# Altium schematic symbol library Diode.SchLib: 43 symbols
Pins are listed as number, name and electrical type; pins without a type are passive.

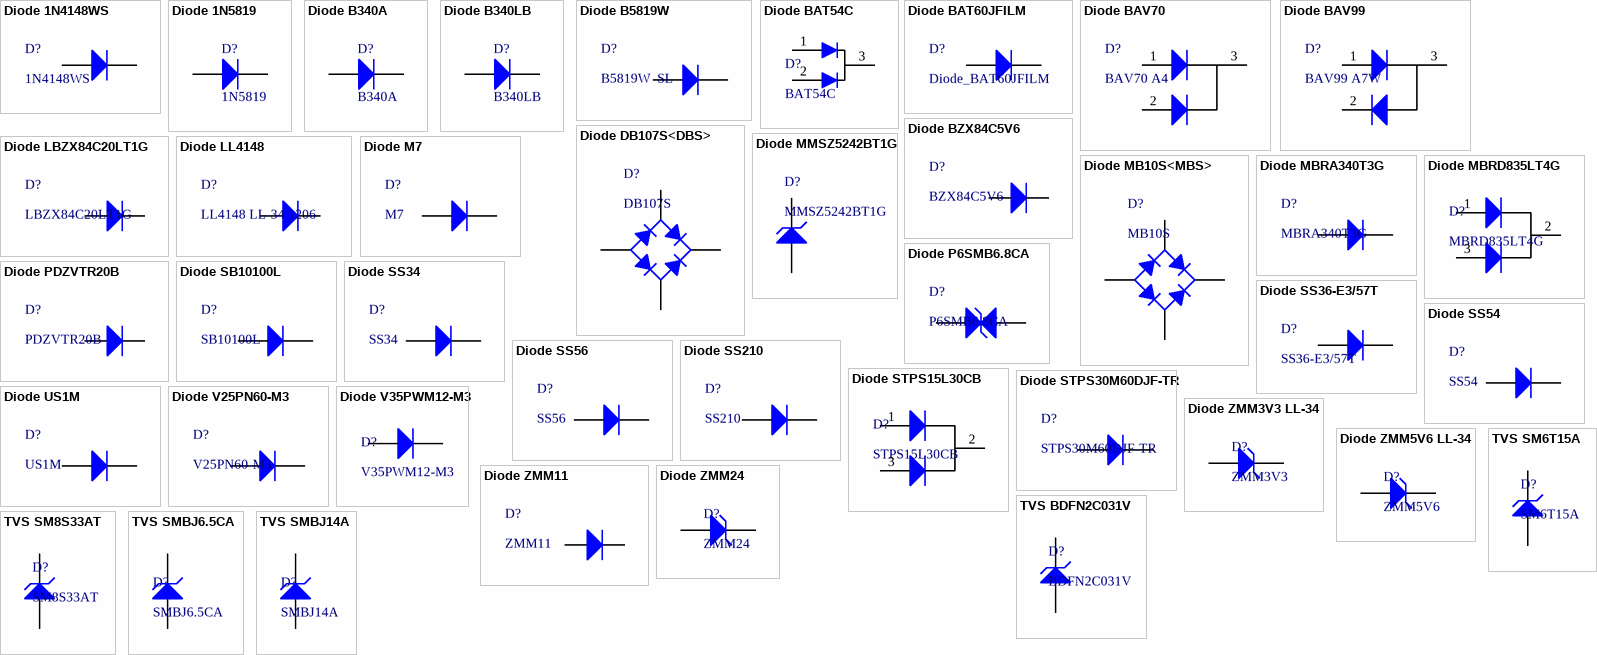
[diagram p0: symbols Diode 1N4148WS to TVS SMBJ14A]

## Diode 1N4148WS
designator D?, comment 1N4148WS
二极管; ComponentLink1Description: 供应商链接; ComponentLink1URL: http://www.szlcsc.com/product/details_2485.html; Package: SOD-323; Supplier: LC; SuppliersPartNumber: C2128
footprint SOD323
pins: 1 A, 2 K

## Diode 1N5819
designator D?, comment 1N5819
肖特基二极管; Published: 8-Jun-2000; LatestRevisionDate: 17-Jul-2002; LatestRevisionNote: Re-released for DXP Platform.; PackageVersion: Sep-1996; PackageReference: SMC; Publisher: Altium Limited; PackageDescription: DO-214-AB/SMC; 2 C-Bend Leads; Body 7.9 x 5.9 mm, inc. leads (LxW); Code_JEDEC: DO-214-AB
footprint SOD123F
pins: 1 A, 2 K

## Diode B340A
designator D?, comment B340A
肖特基二极管; Published: 8-Jun-2000; LatestRevisionDate: 17-Jul-2002; LatestRevisionNote: Re-released for DXP Platform.; PackageVersion: Sep-1996; PackageReference: SMC; Publisher: Altium Limited; PackageDescription: DO-214-AB/SMC; 2 C-Bend Leads; Body 7.9 x 5.9 mm, inc. leads (LxW); Code_JEDEC: DO-214-AB
footprint DO-214AC
pins: 1 A, 2 K

## Diode B340LB
designator D?, comment B340LB
肖特基二极管; Published: 8-Jun-2000; LatestRevisionDate: 17-Jul-2002; LatestRevisionNote: Re-released for DXP Platform.; PackageVersion: Sep-1996; PackageReference: SMC; Publisher: Altium Limited; PackageDescription: DO-214-AB/SMC; 2 C-Bend Leads; Body 7.9 x 5.9 mm, inc. leads (LxW); Code_JEDEC: DO-214-AB
footprint DO-214AA
pins: 1 A, 2 K

## Diode B5819W
designator D?, comment B5819W  SL
肖特基二极管; ComponentLink1Description: 供应商链接; ComponentLink1URL: http://www.szlcsc.com/product/details_9093.html; Package: SOD-123; Supplier: LC; SuppliersPartNumber: C8598
footprint SOD123
pins: 1 A, 2 K

## Diode BAT54C
designator D?, comment BAT54C
肖特基二极管
footprint SOT23-3
pins: 1 A, 2 A, 3 K

## Diode BAT60JFILM
designator D?, comment Diode_BAT60JFILM
二极管; ComponentLink1Description: 供应商链接; ComponentLink1URL: http://www.szlcsc.com/product/details_2485.html; Package: SOD-323; Supplier: LC; SuppliersPartNumber: C2128
footprint SOD323
pins: 1 A, 2 K

## Diode BAV70
designator D?, comment BAV70 A4
开关二极管; ComponentLink1Description: 供应商链接; ComponentLink1URL: http://www.szlcsc.com/product/details_70091.html; Package: SOT-23; Supplier: LC; SuppliersPartNumber: C68978
footprint SOT23-3
pins: 1 A, 2 A, 3 K

## Diode BAV99
designator D?, comment BAV99 A7W
开关二极管; ComponentLink1Description: 供应商链接; ComponentLink1URL: http://www.szlcsc.com/product/details_2877.html; Package: SOT-23; Supplier: LC; SuppliersPartNumber: C2500
footprint SOT23-3
pins: 1 A, 2 A, 3 K

## Diode BZX84C5V6
designator D?, comment BZX84C5V6
开关二极管; ComponentLink1Description: 供应商链接; ComponentLink1URL: http://www.szlcsc.com/product/details_10338.html; Package: LL-34; Supplier: LC; SuppliersPartNumber: C9808
footprint SOT23-3
pins: 1 A, 2 A, 3 K

## Diode DB107S<DBS>
designator D?, comment DB107S
整流桥; ComponentLink1Description: 供应商链接; ComponentLink1URL: http://www.szlcsc.com/product/details_5809.html; Package: DBS; Supplier: LC; SuppliersPartNumber: C5377
footprint DBS
pins: 1 C, 2 K, 3 C, 4 A

## Diode LBZX84C20LT1G
designator D?, comment LBZX84C20LT1G
开关二极管; ComponentLink1Description: 供应商链接; ComponentLink1URL: http://www.szlcsc.com/product/details_10338.html; Package: LL-34; Supplier: LC; SuppliersPartNumber: C9808
footprint SOT23-3
pins: 1 A, 2 A, 3 K

## Diode LL4148
designator D?, comment LL4148 LL-34 1206
开关二极管; ComponentLink1Description: 供应商链接; ComponentLink1URL: http://www.szlcsc.com/product/details_10338.html; Package: LL-34; Supplier: LC; SuppliersPartNumber: C9808
footprint LL-34
pins: 1 A, 2 K

## Diode M7
designator D?, comment M7
二极管; 备注: 1N4007 4007 编号C2464 已经停售, 使用新物料编号C95872; ComponentLink1Description: 供应商链接; ComponentLink1URL: http://www.szlcsc.com/product/details_2841.html; Package: SMA(DO-214AC); Supplier: LC; SuppliersPartNumber: C95872
footprint DO-214AC
pins: 1 A, 2 K

## Diode MB10S<MBS>
designator D?, comment MB10S
整流桥; ComponentLink1Description: 供应商链接; ComponentLink1URL: http://www.szlcsc.com/product/details_2865.html; Package: MBS; Supplier: LC; SuppliersPartNumber: C2488
footprint MBS
pins: 1 C, 2 K, 3 C, 4 A

## Diode MBRA340T3G
designator D?, comment MBRA340T3G
二极管; ComponentLink1Description: 供应商链接; ComponentLink1URL: http://www.szlcsc.com/product/details_23178.html; Package: SMA(DO-214AC); Supplier: LC; SuppliersPartNumber: C22452
footprint DO-214AC
pins: 1 A, 2 K

## Diode MBRD835LT4G
designator D?, comment MBRD835LT4G
肖特基二极管
footprint TO252 (252晶体管)
pins: 1, 2, 3

## Diode MMSZ5242BT1G
designator D?, comment MMSZ5242BT1G
稳压二极管; ComponentLink1Description: 供应商链接; ComponentLink1URL: http://www.szlcsc.com/product/details_10338.html; Package: LL-34; Supplier: LC; SuppliersPartNumber: C9808
footprint SOD123
pins: 1 A, 2 K

## Diode P6SMB6.8CA
designator D?, comment P6SMB6.8CA
TVS管; ComponentLink1Description: 供应商链接; ComponentLink1URL: http://www.szlcsc.com/product/details_79530.html; Package: SMB/DO-214AA; Supplier: LC; SuppliersPartNumber: C78395
footprint DO-214AA
pins: 1 A, 2 K

## Diode PDZVTR20B
designator D?, comment PDZVTR20B
稳压二极管; ComponentLink1Description: 供应商链接; ComponentLink1URL: http://www.szlcsc.com/product/details_10338.html; Package: LL-34; Supplier: LC; SuppliersPartNumber: C9808
footprint SOD128
pins: 1 A, 2 K

## Diode SB10100L
designator D?, comment SB10100L
二极管; ComponentLink1Description: 供应商链接; ComponentLink1URL: http://www.szlcsc.com/product/details_23178.html; Package: SMA(DO-214AC); Supplier: LC; SuppliersPartNumber: C22452
footprint TO277
pins: 1 A, 2 A, K

## Diode SS34
designator D?, comment SS34
二极管; ComponentLink1Description: 供应商链接; ComponentLink1URL: http://www.szlcsc.com/product/details_23178.html; Package: SMA(DO-214AC); Supplier: LC; SuppliersPartNumber: C22452
footprint DO-214AC
pins: 1 A, 2 K

## Diode SS36-E3/57T
designator D?, comment SS36-E3/57T
二极管; ComponentLink1Description: 供应商链接; ComponentLink1URL: http://www.szlcsc.com/product/details_36698.html; Package: SMC(DO-214AB); Supplier: LC; SuppliersPartNumber: C35722
footprint DO-214AB
pins: 1 A, 2 K

## Diode SS54
designator D?, comment SS54
二极管; ComponentLink1Description: 供应商链接; ComponentLink1URL: http://www.szlcsc.com/product/details_23178.html; Package: SMA(DO-214AC); Supplier: LC; SuppliersPartNumber: C22452
footprint DO-214AC
pins: 1 A, 2 K

## Diode SS56
designator D?, comment SS56
二极管; ComponentLink1Description: 供应商链接; ComponentLink1URL: http://www.szlcsc.com/product/details_23178.html; Package: SMA(DO-214AC); Supplier: LC; SuppliersPartNumber: C22452
footprint DO-214AC
pins: 1 A, 2 K

## Diode SS210
designator D?, comment SS210
二极管; ComponentLink1Description: 供应商链接; ComponentLink1URL: http://www.szlcsc.com/product/details_15669.html; Package: SMA(DO-214AC); Supplier: LC; SuppliersPartNumber: C14996
footprint DO-214AC
pins: 1 A, 2 K

## Diode STPS15L30CB
designator D?, comment STPS15L30CB
肖特基二极管
footprint TO252 (252晶体管)
pins: 1, 2, 3

## Diode STPS30M60DJF-TR
designator D?, comment STPS30M60DJF-TR
二极管; ComponentLink1Description: 供应商链接; ComponentLink1URL: http://www.szlcsc.com/product/details_23178.html; Package: SMA(DO-214AC); Supplier: LC; SuppliersPartNumber: C22452
footprint POWERFLAT 5X6
pins: 1 A, 2 A, 3 A, 4 A, 5 K, 6 K, 7 K, 8 K

## Diode US1M
designator D?, comment US1M
二极管; ComponentLink1Description: 供应商链接; ComponentLink1URL: http://www.szlcsc.com/product/details_5885.html; Package: SMA(DO-214AC); Supplier: LC; SuppliersPartNumber: C5441
footprint DO-214AC
pins: 1 A, 2 K

## Diode V25PN60-M3
designator D?, comment V25PN60-M3
肖特基二极管; Package: SMA(DO-214AC); Supplier: LC; SuppliersPartNumber: C22452; ComponentLink1Description: 立创商城链接; ComponentLink1URL: https://item.szlcsc.com/240762.html
footprint TO277
pins: 1 A, 2 A, K

## Diode V35PWM12-M3
designator D?, comment V35PWM12-M3
肖特基二极管; ComponentLink1Description: 立创商城链接; ComponentLink1URL: https://item.szlcsc.com/156647.html
footprint TO252 (252晶体管)
pins: 1, 2, 3

## Diode ZMM3V3 LL-34
designator D?, comment ZMM3V3
稳压二极管; ComponentLink1Description: 供应商链接; ComponentLink1URL: http://www.szlcsc.com/product/details_8535.html; Package: LL-34; Supplier: LC; SuppliersPartNumber: C8056
footprint LL-34
pins: 1 A, 2 K

## Diode ZMM5V6 LL-34
designator D?, comment ZMM5V6
稳压二极管; ComponentLink1Description: 供应商链接; ComponentLink1URL: http://www.szlcsc.com/product/details_8541.html; Package: LL-34; Supplier: LC; SuppliersPartNumber: C8062
footprint LL-34
pins: 1 A, 2 K

## Diode ZMM11
designator D?, comment ZMM11
稳压二极管; ComponentLink1Description: 供应商链接; ComponentLink1URL: http://www.szlcsc.com/product/details_10338.html; Package: LL-34; Supplier: LC; SuppliersPartNumber: C9808
footprint LL-34
pins: 1 A, 2 K

## Diode ZMM24
designator D?, comment ZMM24
稳压二极管; Package: LL-34; Supplier: LC; SuppliersPartNumber: C8062; ComponentLink1Description: 立创商城链接; ComponentLink1URL: https://item.szlcsc.com/8553.html
footprint LL-34
pins: 1 A, 2 K

## TVS BDFN2C031V
designator D?, comment BDFN2C031V
TVS管
footprint DFN2
pins: 1 A, 2 K

## TVS SM6T15A
designator D?, comment SM6T15A
TVS管
footprint DO-214
pins: 1 A, 2 K

## TVS SM8S33AT
designator D?, comment SM8S33AT
TVS管
footprint DO-218 (=DO-218AB)
pins: 1 A, 2 K

## TVS SMBJ6.5CA
designator D?, comment SMBJ6.5CA
TVS管; ComponentLink1Description: 供应商链接; ComponentLink1URL: http://www.szlcsc.com/product/details_23178.html; Package: SMA(DO-214AC); Supplier: LC; SuppliersPartNumber: C22452
footprint DO-214AA
pins: 1 A, 2 K

## TVS SMBJ14A
designator D?, comment SMBJ14A
TVS管; ComponentLink1Description: 供应商链接; ComponentLink1URL: http://www.szlcsc.com/product/details_23178.html; Package: SMA(DO-214AC); Supplier: LC; SuppliersPartNumber: C22452
footprint DO-214AA
pins: 1 A, 2 K

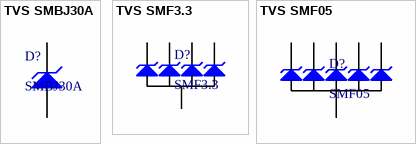
[diagram p1: symbols TVS SMBJ30A to TVS SMF05]

## TVS SMBJ30A
designator D?, comment SMBJ30A
TVS管; ComponentLink1Description: 供应商链接; ComponentLink1URL: http://www.szlcsc.com/product/details_23178.html; Package: SMA(DO-214AC); Supplier: LC; SuppliersPartNumber: C22452
footprint DO-214AA
pins: 1 A, 2 K

## TVS SMF3.3
designator D?, comment SMF3.3
TVS管
footprint SC-70-5
pins: 1, 2, 3, 4, 5

## TVS SMF05
designator D?, comment SMF05
TVS管
footprint SC-70-6(SOT-363)
pins: 1, 2, 3, 4, 5, 6